# Altium footprint library A121-001-T&R.PcbLib: 1 footprints
Each footprint in its own frame and in the unit in brackets; x right, y up, seen from the top. Pads: shape width x height; smd on the part's side, far side on the other; paste and mask are expansions set on the pad; w line width, h text height; cw(c..) or ccw(c..) is an arc to the next point about the centre after c.
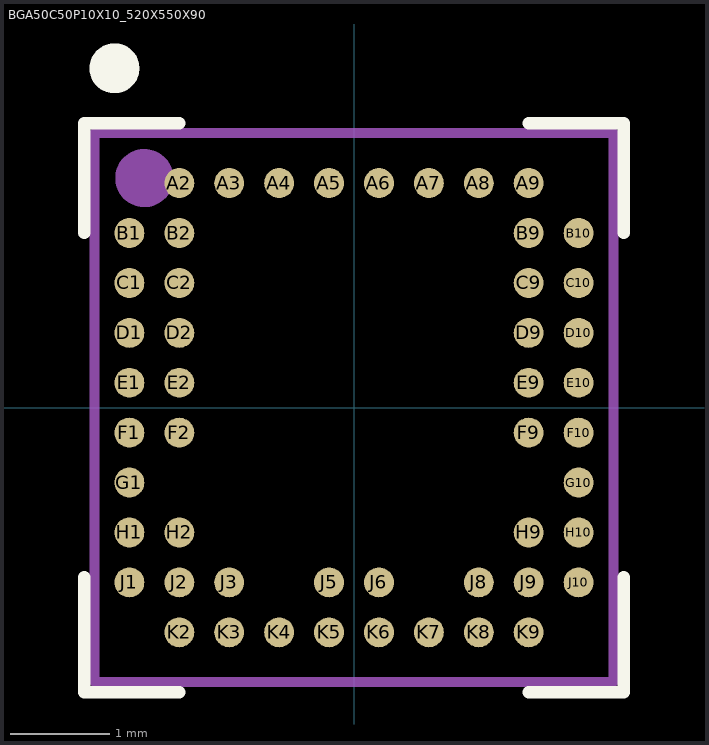
[diagram p0: the footprint, top view; thin cyan lines are the x and y axes]

## BGA50C50P10X10_520X550X90 [mm]
pads (50):
  round 0.3 smd mask+0.05: A2(-1.75,2.25) A3(-1.25,2.25) A4(-0.75,2.25) A5(-0.25,2.25) A6(0.25,2.25) A7(0.75,2.25) A8(1.25,2.25) A9(1.75,2.25) B1(-2.25,1.75) B2(-1.75,1.75) B9(1.75,1.75) B10(2.25,1.75) C1(-2.25,1.25) C2(-1.75,1.25) C9(1.75,1.25) C10(2.25,1.25) D1(-2.25,0.75) D2(-1.75,0.75) D9(1.75,0.75) D10(2.25,0.75) E1(-2.25,0.25) E2(-1.75,0.25) E9(1.75,0.25) E10(2.25,0.25) F1(-2.25,-0.25) F2(-1.75,-0.25) F9(1.75,-0.25) F10(2.25,-0.25) G1(-2.25,-0.75) G10(2.25,-0.75) H1(-2.25,-1.25) H2(-1.75,-1.25) H9(1.75,-1.25) H10(2.25,-1.25) J1(-2.25,-1.75) J2(-1.75,-1.75) J3(-1.25,-1.75) J5(-0.25,-1.75) J6(0.25,-1.75) J8(1.25,-1.75) J9(1.75,-1.75) J10(2.25,-1.75) K2(-1.75,-2.25) K3(-1.25,-2.25) K4(-0.75,-2.25) K5(-0.25,-2.25) K6(0.25,-2.25) K7(0.75,-2.25) K8(1.25,-2.25) K9(1.75,-2.25)
Top Overlay:
  circle w0.25: c-2.4,3.4 r0.125
  lines w0.125: -2.7,-1.7 -2.7,-2.85 -1.75,-2.85 ; -2.7,1.75 -2.7,2.85 -1.75,2.85 ; 1.75,-2.85 2.7,-2.85 2.7,-1.7 ; 1.75,2.85 2.7,2.85 2.7,1.75
Top Assembly (Mech13):
  circle w0.3: c-2.1,2.3 r0.141
  lines w0.1: -2.6,-2.75 -2.6,2.75 2.6,2.75 2.6,-2.75 -2.6,-2.75
  text ".Designator" at 0.5,3.825 h2
3D body "A111_dark v1.step": height 0.51, standoff 0, extent -2.602,-3 2.602,2.5